# Altium footprint library BasicosyConectores.PcbLib: 34 footprints (part 2 of 3)
Each footprint in its own frame and in the unit in brackets; x right, y up, seen from the top. Pads: shape width x height; smd on the part's side, far side on the other; paste and mask are expansions set on the pad; w line width, h text height; cw(c..) or ccw(c..) is an arc to the next point about the centre after c.
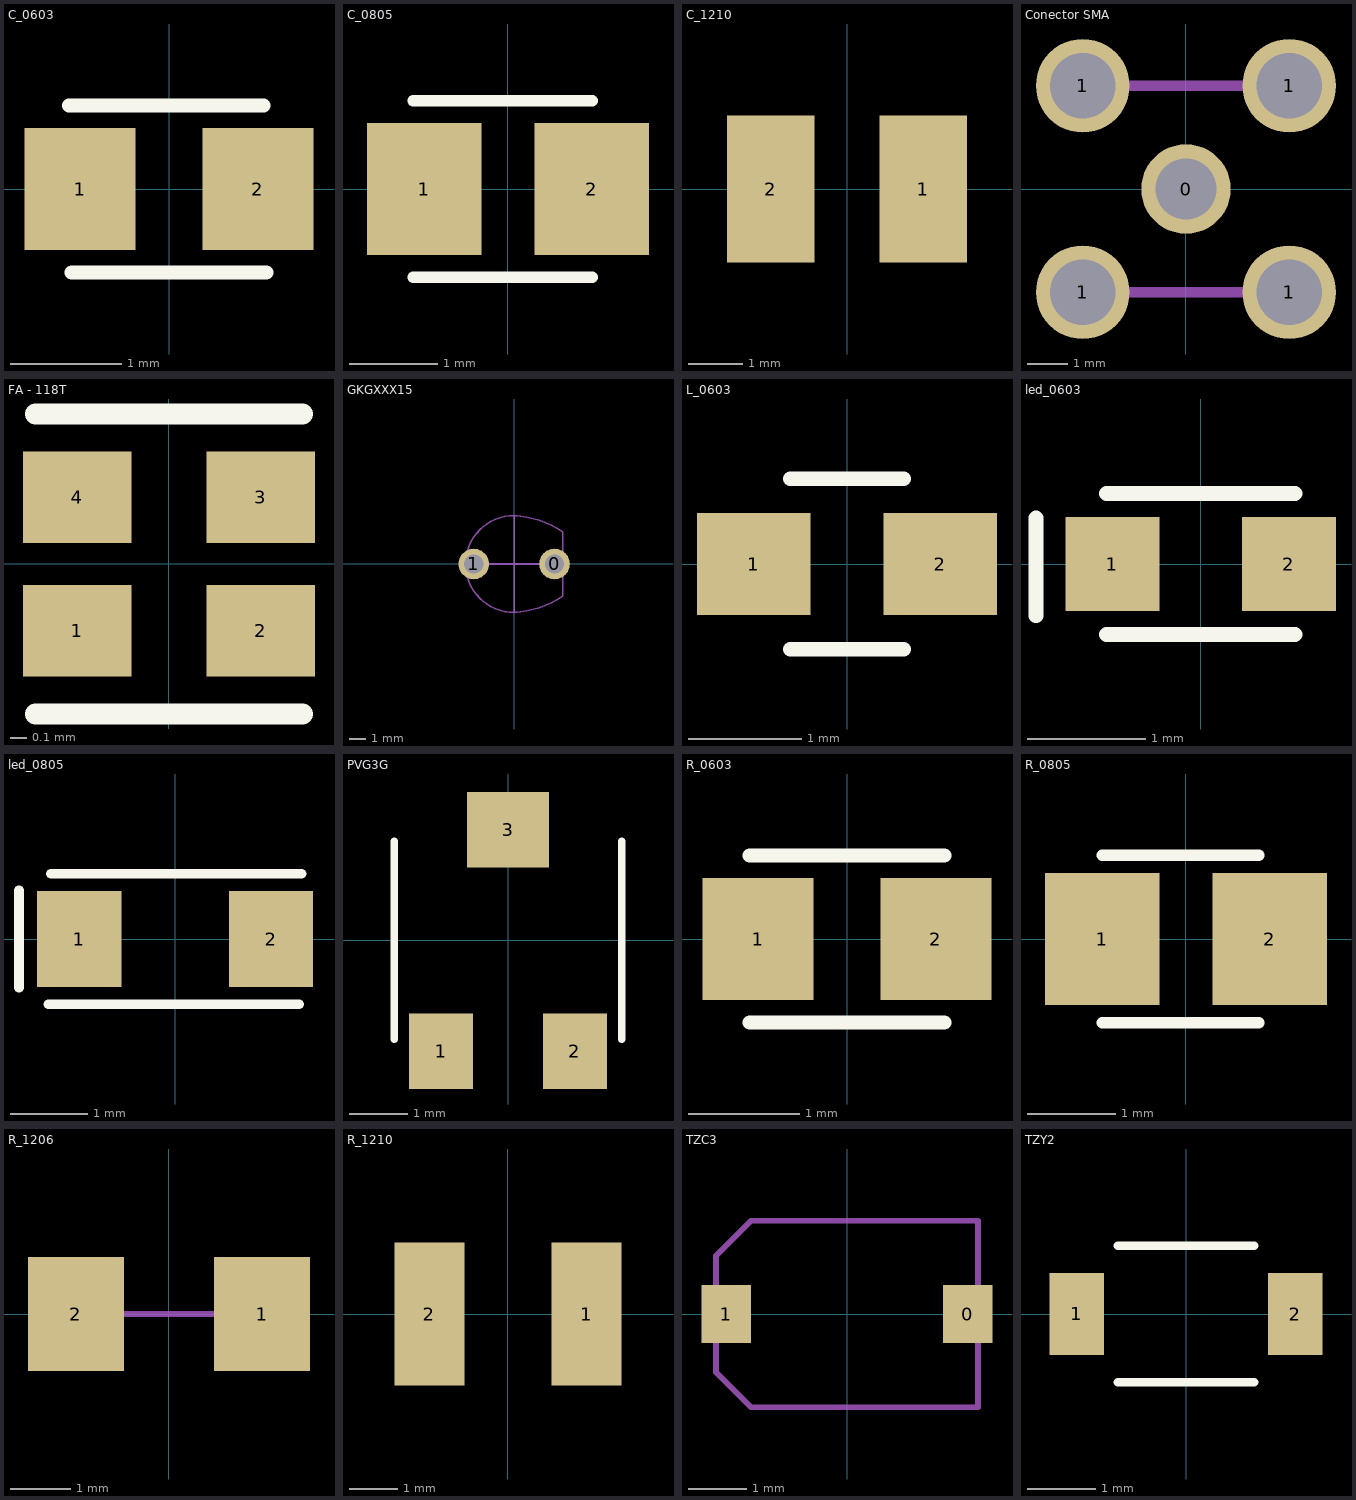
[diagram p1: the footprints below, top view; thin cyan lines are the x and y axes]

## C_0603 [mm]
pads (2):
  rect 1x1.1 smd: 1(-0.8,0) 2(0.8,0)
Top Overlay:
  lines w0.127: -0.9,0.75 0.85,0.75 ; -0.875,-0.75 0.875,-0.75

## C_0805 [mm]
pads (2):
  rect 1.3x1.5 smd: 1(-0.95,0) 2(0.95,0)
Top Overlay:
  lines w0.127: -1.077,-1 0.955,-1 ; -1.077,1 0.955,1

## C_1210 [mm]
pads (2):
  rect 1.6x2.7 smd: 1(1.4,0) 2(-1.4,0)
3D body: height 0.53, standoff -0.03, extent -1.6,-1.255 1.6,1.255

## Conector SMA [mm]
pads (5):
  round 2.2 hole 1.5: 0(0,0)
  round 2.3 hole 1.6: 1(-2.54,-2.54) 1(-2.54,2.54) 1(2.54,-2.54) 1(2.54,2.54)
Mechanical 1:
  lines w0.254: -2.54,-2.54 2.54,-2.54 ; -2.54,2.54 2.54,2.54
3D body: height 11.18, standoff -2.66, extent -3.17,-3.048 3.17,11.152

## FA - 118T [mm] "Crystal SMD"
pads (4):
  rect 0.65x0.55 smd: 1(-0.55,-0.4) 2(0.55,-0.4) 3(0.55,0.4) 4(-0.55,0.4)
Top Overlay:
  lines w0.127: -0.8,-0.9 0.8,-0.9 ; -0.8,0.9 0.8,0.9

## GKGXXX15 [mm]
pads (2):
  round 1.9 hole 1.2: 0(2.5,0) 1(-2.5,0)
Mechanical 1:
  lines w0.1: 0,-2.5 0,2.5 ; 3,0 -3,0 ; -3,0 cw(c0,0) 0,3 ; -3,0 ccw(c0,0) 0,-3 ; 0,-3 ccw(c-0.378,3.135) 3,-2 3,2 ccw(c-0.378,-3.135) 0,3 ; 0,-3 0,3

## L_0603 [mm]
pads (2):
  rect 1x0.9 smd: 1(-0.82,0) 2(0.82,0)
Top Overlay:
  lines w0.127: -0.5,-0.75 0.5,-0.75 ; -0.5,0.75 0.5,0.75

## led_0603 [mm]
pads (2):
  rect 0.8x0.8 smd: 1(-0.75,0) 2(0.75,0)
Top Overlay:
  lines w0.127: -1.4,-0.44 -1.4,0.39 ; -0.8,-0.6 0.8,-0.6 ; -0.8,0.6 0.8,0.6

## led_0805 [mm]
pads (2):
  rect 1.1x1.25 smd: 1(-1.25,0) 2(1.25,0)
Top Overlay:
  lines w0.127: -2.032,-0.635 -2.032,0.635 ; -1.651,-0.85 1.619,-0.85 ; -1.619,0.85 1.651,0.85

## PVG3G [mm] "SMD Potenciometro"
pads (3):
  rect 1.1x1.3 smd: 1(-1.15,-1.9) 2(1.15,-1.9)
  rect 1.4x1.3 smd: 3(0,1.9)
Top Overlay:
  lines w0.127: -1.95,-1.7 -1.95,1.7 ; 1.95,-1.7 1.95,1.7

## R_0603 [mm]
pads (2):
  rect 1x1.1 smd: 1(-0.8,0) 2(0.8,0)
Top Overlay:
  lines w0.127: -0.875,-0.75 0.875,-0.75 ; -0.875,0.75 0.875,0.75

## R_0805 [mm]
pads (2):
  rect 1.3x1.5 smd: 1(-0.95,0) 2(0.95,0)
Top Overlay:
  lines w0.127: -0.95,-0.95 0.828,-0.95 ; -0.95,0.95 0.828,0.95

## R_1206 [mm]
pads (2):
  rect 1.6x1.9 smd: 1(1.55,0) 2(-1.55,0)
Mechanical 1:
  lines w0.1: -1.55,0 1.55,0
3D body: height 1, standoff 0, extent -1.6,-0.8 1.6,0.8

## R_1210 [mm]
pads (2):
  rect 1.45x2.95 smd: 1(1.625,0) 2(-1.625,0)
3D body: height 0.53, standoff -0.03, extent -1.6,-1.255 1.6,1.255

## TZC3 [mm]
pads (2):
  rect 0.85x1 smd: 0(2.075,0) 1(-2.075,0)
Mechanical 1:
  lines w0.1: -2.25,-1 -1.65,-1.6 2.25,-1.6 2.25,1.6 -1.65,1.6 -2.25,1 -2.25,-1
3D body: height 1.6, standoff 0, extent -2.25,-1.596 2.35,1.604

## TZY2 [mm]
pads (2):
  rect 0.8x1.2 smd: 1(-1.6,0) 2(1.6,0)
Top Overlay:
  lines w0.127: -1,-1 1,-1 ; -1,1 1,1